# Altium schematic symbol library SCH - POWER - LINEAR VREG - TI LP5910-1P0DRV.SchLib: 1 symbol
Pins are listed as number, name and electrical type; pins without a type are passive.

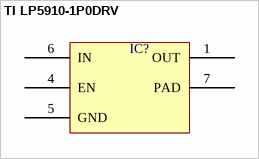
[diagram p0: symbol TI LP5910-1P0DRV]

## TI LP5910-1P0DRV
designator IC?  (value not drawn)
pins: 1 OUT, 4 EN, 5 GND, 6 IN, 7 PAD